# Altium schematic symbol library CL21A475KLCLQNC.SchLib: 1 symbol
Pins are listed as number, name and electrical type; pins without a type are passive.

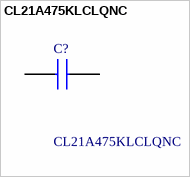
[diagram p0: symbol CL21A475KLCLQNC]

## CL21A475KLCLQNC
designator C?
Manufacturer_Name: SAMSUNG; Geometry.Height: 0.95mm; Mouser Part Number: 187-CL21A475KLCLQNC; Mouser Price/Stock: https://www.mouser.co.uk/ProductDetail/Samsung-Electro-Mechanics/CL21A475KLCLQNC?qs=xZ%2FP%252Ba9zWqblbGH9u%2F3CcQ%3D%3D; Manufacturer_Part_Number: CL21A475KLCLQNC; Description: CL21A475KLCLQNC; Datasheet Link: https://datasheet.datasheetarchive.com/originals/dk/DKDS-19/374306.pdf
footprint CAPC2012X95N
pins: 1, 2